# Altium schematic symbol library C-C0603C102K3RACTU.Schlib: 1 symbol
Pins are listed as number, name and electrical type; pins without a type are passive.

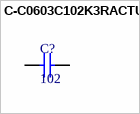
[diagram p0: symbol C-C0603C102K3RACTU]

## C-C0603C102K3RACTU
designator C?, comment 102
Multilayer Ceramic Capacitors MLCC - SMD/SMT 25volts 1000pF X7R 10%
pins: 1, 2